# Altium footprint library AYF530465T.PcbLib: 1 footprints
Each footprint in its own frame and in the unit in brackets; x right, y up, seen from the top. Pads: shape width x height; smd on the part's side, far side on the other; paste and mask are expansions set on the pad; w line width, h text height; cw(c..) or ccw(c..) is an arc to the next point about the centre after c.
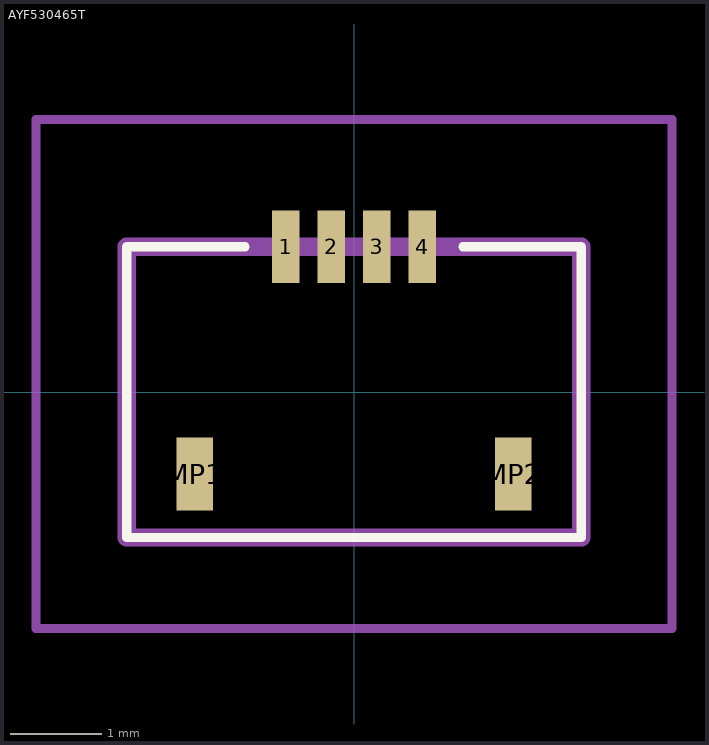
[diagram p0: the footprint, top view; thin cyan lines are the x and y axes]

## AYF530465T [mm]
pads (6):
  rect 0.3x0.8 smd: 1(-0.75,1.6) 2(-0.25,1.6) 3(0.25,1.6) 4(0.75,1.6)
  rect 0.4x0.8 smd: MP1(-1.75,-0.9) MP2(1.75,-0.9)
Top Overlay:
  lines w0.1: -1.2,1.6 -2.5,1.6 -2.5,-1.6 2.5,-1.6 2.5,1.6 1.2,1.6
Mechanical 15:
  lines w0.2: -2.5,-1.6 2.5,-1.6 2.5,1.6 -2.5,1.6 -2.5,-1.6
Mechanical 20:
  lines w0.1: -3.5,-2.6 3.5,-2.6 3.5,3 -3.5,3 -3.5,-2.6